# EAGLE library part TIL192 (library optocoupler_sendec)
TEXAS INSTRUMENTS OPTO COUPLER
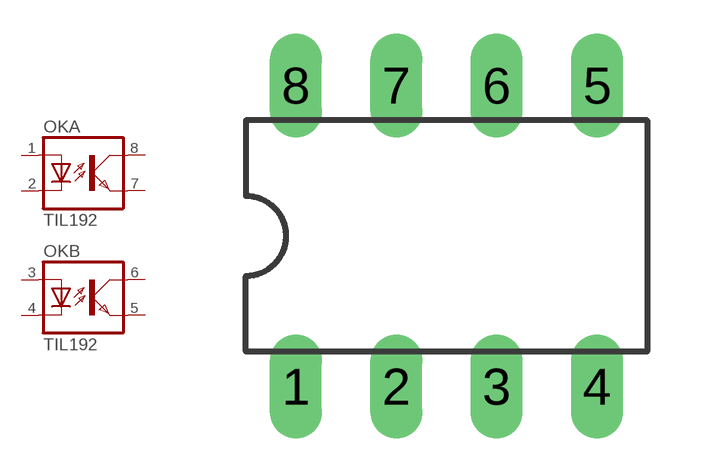
[diagram p12: symbol with the pads of DIL08; footprint DIL08]

Designator prefix OK; gates A=OK B=OK

## TIL192  [DIL08]
1  A:A  pas
2  A:C  pas
3  B:A  pas
4  B:C  pas
5  B:EMIT  pas
6  B:COL  pas
7  A:EMIT  pas
8  A:COL  pas

## Footprint DIL08 (pad centres in mm)
Dual In Line Package
drill 0.813 long: 1 -3.81,-3.81; 2 -1.27,-3.81; 3 1.27,-3.81; 4 3.81,-3.81; 5 3.81,3.81; 6 1.27,3.81; 7 -1.27,3.81; 8 -3.81,3.81